# EAGLE library part VN-100 (library vectornav)
VN-100 Module attitude and heading reference system (AHRS)
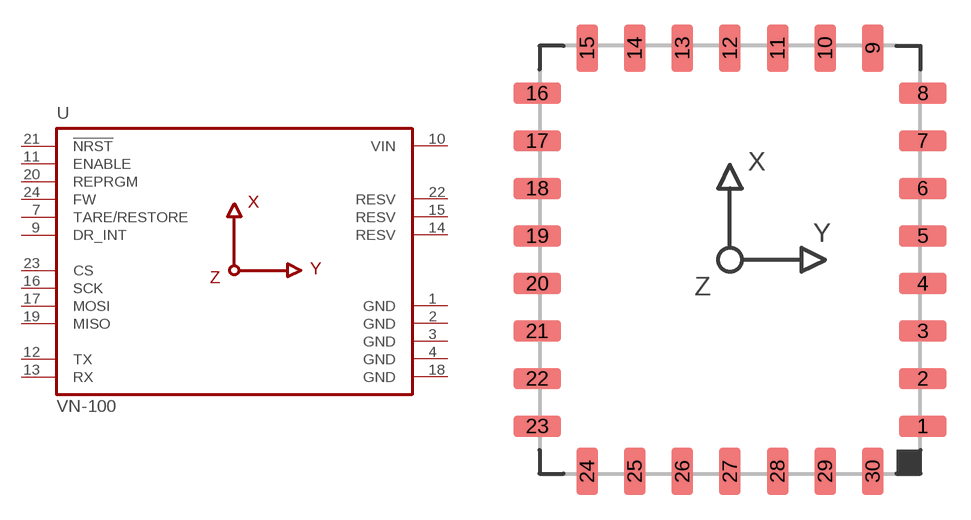
[diagram p0: symbol with the pads of VN-100; footprint VN-100]

Designator prefix U

## VN-100  [VN-100]
1  GND  pwr
2  GND  pwr
3  GND  pwr
4  GND  pwr
7  TARE/RESTORE  in
9  DR_INT  out
10  VIN  pwr
11  ENABLE  in
12  TX  out
13  RX  in
14  RESV  pas
15  RESV  pas
16  SCK
17  MOSI
18  GND  pwr
19  MISO
20  REPRGM  in
21  !NRST!  in
22  RESV  pas
23  CS  in
24  FW  in

## Footprint VN-100 (pad centres in mm)
VN-100 Module
smd 2.54 x 1.143: 1 10.287,-8.89; 2 10.287,-6.35; 3 10.287,-3.81; 4 10.287,-1.27; 5 10.287,1.27; 6 10.287,3.81; 7 10.287,6.35; 8 10.287,8.89; 16 -10.287,8.89; 17 -10.287,6.35; 18 -10.287,3.81; 19 -10.287,1.27; 20 -10.287,-1.27; 21 -10.287,-3.81; 22 -10.287,-6.35; 23 -10.287,-8.89
smd 1.143 x 2.54: 9 7.62,11.303; 10 5.08,11.303; 11 2.54,11.303; 12 0,11.303; 13 -2.54,11.303; 14 -5.08,11.303; 15 -7.62,11.303; 24 -7.62,-11.303; 25 -5.08,-11.303; 26 -2.54,-11.303; 27 0,-11.303; 28 2.54,-11.303; 29 5.08,-11.303; 30 7.62,-11.303